# Altium footprint library SM_QFN-16.PcbLib: 1 footprints
Each footprint in its own frame and in the unit in brackets; x right, y up, seen from the top. Pads: shape width x height; smd on the part's side, far side on the other; paste and mask are expansions set on the pad; w line width, h text height; cw(c..) or ccw(c..) is an arc to the next point about the centre after c.
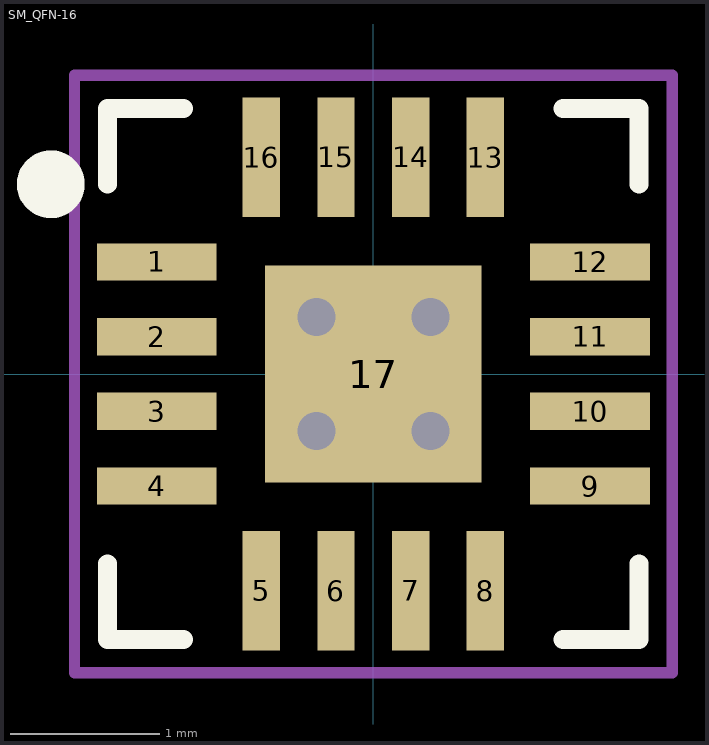
[diagram p0: the footprint, top view; thin cyan lines are the x and y axes]

## SM_QFN-16 [mm] "16-WFQFN Exposed Pad"
pads (17):
  rect 0.8x0.25 smd mask+0.076: 1(-1.45,0.75) 2(-1.45,0.25) 3(-1.45,-0.25) 4(-1.45,-0.75) 9(1.45,-0.75) 10(1.45,-0.25) 11(1.45,0.25) 12(1.45,0.75)
  rect 0.25x0.8 smd mask+0.076: 5(-0.75,-1.45) 6(-0.25,-1.45) 7(0.25,-1.45) 8(0.75,-1.45) 13(0.75,1.45) 14(0.25,1.45) 15(-0.25,1.45) 16(-0.75,1.45)
  rect 1.45x1.45 smd mask+0.076: 17(0,0)
via -0.381,0.381 diameter 0.508 hole 0.254
via -0.381,-0.381 diameter 0.508 hole 0.254
via 0.381,-0.381 diameter 0.508 hole 0.254
via 0.381,0.381 diameter 0.508 hole 0.254
Top Overlay:
  circle w0.254: c-2.159,1.27 r0.1
  lines w0.127: -1.778,-1.27 -1.778,-1.778 -1.27,-1.778 ; -1.778,1.27 -1.778,1.778 -1.27,1.778 ; 1.27,-1.778 1.778,-1.778 1.778,-1.27 ; 1.27,1.778 1.778,1.778 1.778,1.27
Mechanical 15:
  lines w0.076: -0.2,0 0.2,0 ; 0,-0.2 0,0.2 ; -2,-2 2,-2 2,2 -2,2 -2,-2
3D body: height 0.75, standoff 0, extent -1.5,-1.5 1.5,1.5